# EAGLE library part QUECTEL_M10 (library gps-gsm)
Quectel M10 GSM module by Quectel
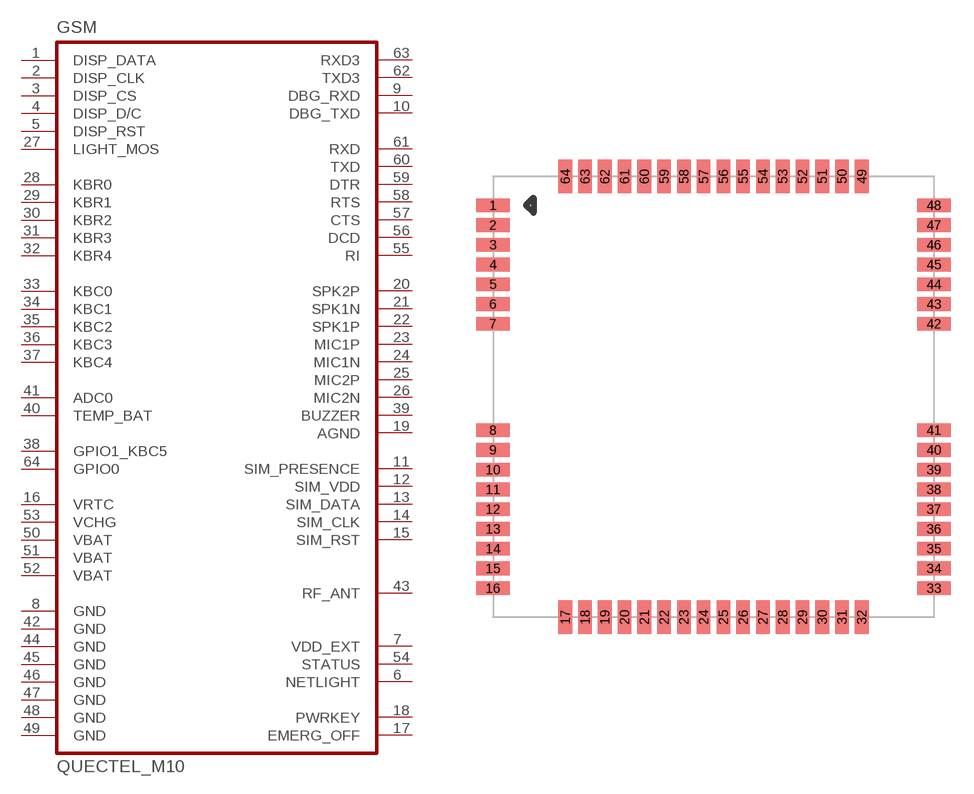
[diagram p18: symbol with the pads of M10; footprint M10]

Designator prefix GSM

## QUECTEL_M10  [M10]
1  DISP_DATA
2  DISP_CLK  out
3  DISP_CS  out
4  DISP_D/C  out
5  DISP_RST  out
6  NETLIGHT  out
7  VDD_EXT  out
8  GND  pwr
9  DBG_RXD  in
10  DBG_TXD  out
11  SIM_PRESENCE  in
12  SIM_VDD  out
13  SIM_DATA
14  SIM_CLK  out
15  SIM_RST  out
16  VRTC
17  EMERG_OFF  in
18  PWRKEY  in
19  AGND  pwr
20  SPK2P  out
21  SPK1N  out
22  SPK1P  out
23  MIC1P  in
24  MIC1N  in
25  MIC2P  in
26  MIC2N  in
27  LIGHT_MOS  out
28  KBR0  out
29  KBR1  out
30  KBR2  out
31  KBR3  out
32  KBR4  out
33  KBC0  in
34  KBC1  in
35  KBC2  in
36  KBC3  in
37  KBC4  in
38  GPIO1_KBC5
39  BUZZER  out
40  TEMP_BAT  in
41  ADC0  in
42  GND  pwr
43  RF_ANT
44  GND  pwr
45  GND  pwr
46  GND  pwr
47  GND  pwr
48  GND  pwr
49  GND  pwr
50  VBAT  pwr
51  VBAT  pwr
52  VBAT  pwr
53  VCHG  in
54  STATUS  out
55  RI  out
56  DCD  out
57  CTS  out
58  RTS  in
59  DTR  in
60  TXD  out
61  RXD  in
62  TXD3  out
63  RXD3  in
64  GPIO0

## Footprint M10 (pad centres in mm)
Quectel M10 GSM module by Quectel
smd 2.2 x 0.9: 1 -13.9,12.65; 2 -13.9,11.35; 3 -13.9,10.05; 4 -13.9,8.75; 5 -13.9,7.45; 6 -13.9,6.15; 7 -13.9,4.85; 8 -13.9,-2.15; 9 -13.9,-3.45; 10 -13.9,-4.75; 11 -13.9,-6.05; 12 -13.9,-7.35; 13 -13.9,-8.65; 14 -13.9,-9.95; 15 -13.9,-11.25; 16 -13.9,-12.55; 33 15.1,-12.55; 34 15.1,-11.25; 35 15.1,-9.95; 36 15.1,-8.65; 37 15.1,-7.35; 38 15.1,-6.05; 39 15.1,-4.75; 40 15.1,-3.45; 41 15.1,-2.15; 42 15.1,4.85; 43 15.1,6.15; 44 15.1,7.45; 45 15.1,8.75; 46 15.1,10.05; 47 15.1,11.35; 48 15.1,12.65
smd 0.9 x 2.2: 17 -9.15,-14.45; 18 -7.85,-14.45; 19 -6.55,-14.45; 20 -5.25,-14.45; 21 -3.95,-14.45; 22 -2.65,-14.45; 23 -1.35,-14.45; 24 -0.05,-14.45; 25 1.25,-14.45; 26 2.55,-14.45; 27 3.85,-14.45; 28 5.15,-14.45; 29 6.45,-14.45; 30 7.75,-14.45; 31 9.05,-14.45; 32 10.35,-14.45; 49 10.35,14.55; 50 9.05,14.55; 51 7.75,14.55; 52 6.45,14.55; 53 5.15,14.55; 54 3.85,14.55; 55 2.55,14.55; 56 1.25,14.55; 57 -0.05,14.55; 58 -1.35,14.55; 59 -2.65,14.55; 60 -3.95,14.55; 61 -5.25,14.55; 62 -6.55,14.55; 63 -7.85,14.55; 64 -9.15,14.55